# Altium schematic symbol library BD9D300MUV-E2.SchLib: 2 symbols
Pins are listed as number, name and electrical type; pins without a type are passive.

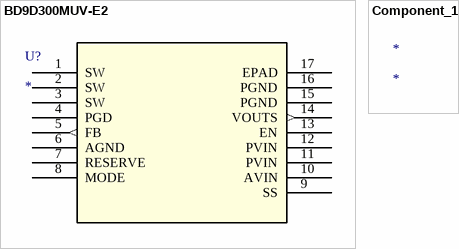
[diagram p0: symbols BD9D300MUV-E2 to Component_1]

## BD9D300MUV-E2
designator U?
No Description Available; Mfr_Name: ROHM Semiconductor; RefDes: RefDes; Type: Type
footprint VQFN16_BD9D300_ROM
pins: 1 SW, 2 SW, 3 SW, 4 PGD, 5 FB (out), 6 AGND (power), 7 RESERVE (power), 8 MODE, 9 SS, 10 AVIN (power), 11 PVIN (power), 12 PVIN (power), 13 EN, 14 VOUTS (out), 15 PGND (power), 16 PGND (power), 17 EPAD (power)

## Component_1
designator *